# EAGLE library part RES_NETWORK_7X (library bao18)
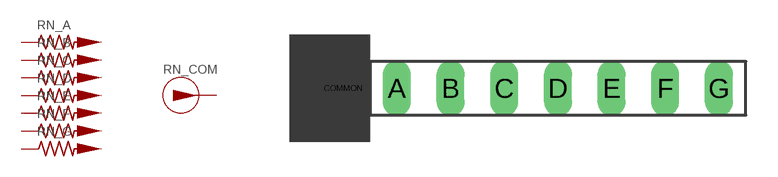
[diagram p8: symbol with the pads of RES_NETWORK_7X_(8PIN/8A); footprint RES_NETWORK_7X_(8PIN/8A)]

Designator prefix RN; gates _COM=RES_NETWORK_COMMON _A=RES_NETWORK_ELEMENT _B=RES_NETWORK_ELEMENT _C=RES_NETWORK_ELEMENT _D=RES_NETWORK_ELEMENT _E=RES_NETWORK_ELEMENT _F=RES_NETWORK_ELEMENT _G=RES_NETWORK_ELEMENT

## RES_NETWORK_7X_DIP_100K (NHPREF: 131; POPULATE: TRUE; VALUE: A8-100k)  [RES_NETWORK_7X_(8PIN/8A)]
A  _A:1  pas
B  _B:1  pas
C  _C:1  pas
COMMON  _COM:NETWORK_COMMON
D  _D:1  pas
E  _E:1  pas
F  _F:1  pas
G  _G:1  pas

## Footprint RES_NETWORK_7X_(8PIN/8A) (pad centres in mm)
drill 0.813 long: A -6.35,0; B -3.81,0; C -1.27,0; COMMON -8.89,0; D 1.27,0; E 3.81,0; F 6.35,0; G 8.89,0